# Altium schematic symbol library miniZigBee.SchLib: 1 symbol
Pins are listed as number, name and electrical type; pins without a type are passive.

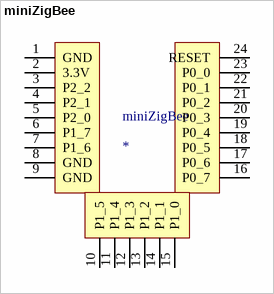
[diagram p0: symbol miniZigBee]

## miniZigBee
designator miniZigBee
footprint miniZigBee
pins: 1 GND, 2 3.3V, 3 P2_2, 4 P2_1, 5 P2_0, 6 P1_7, 7 P1_6, 8 GND, 9 GND, 10 P1_5, 11 P1_4, 12 P1_3, 13 P1_2, 14 P1_1, 15 P1_0, 16 P0_7, 17 P0_6, 18 P0_5, 19 P0_4, 20 P0_3, 21 P0_2, 22 P0_1, 23 P0_0, 24 RESET